# EAGLE library part FH12-8S-0.5SH(55) (library Sala-Eng-Hirose)
Hirose FH12-8S-0.5SH(55) 0.5mm Bottom mount FFC 8 Pin
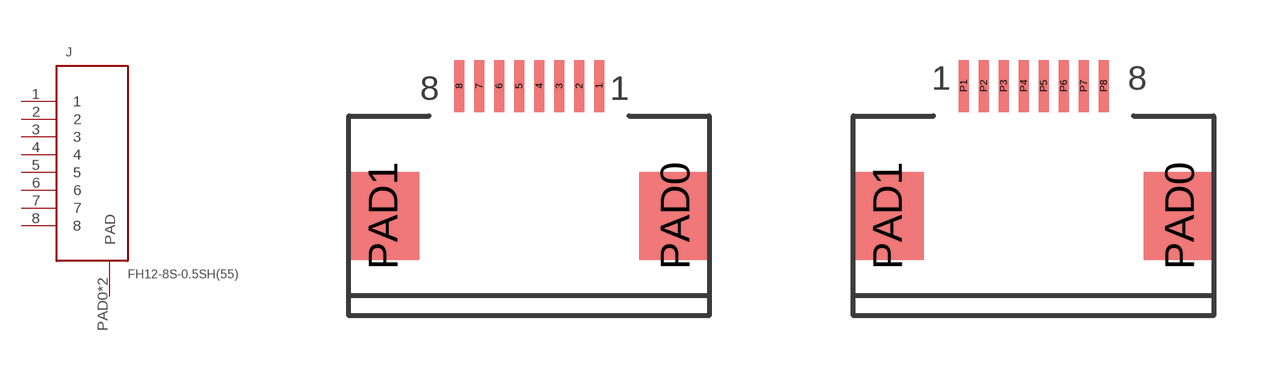
[diagram p10: symbol with the pads of FH12-8S-05.SH(55)-REMOTE; footprints FH12-8S-05.SH(55)-REMOTE, FH12-8S-05.SH(55)-BASE]

Designator prefix J

## FH12-8S-0.5SH(55)REMOTE (MAN-PART_NUM: FH12-8S-0.5SH(55); MANUFACTURER: Hirose)  [FH12-8S-05.SH(55)-REMOTE]
1  1
2  2
3  3
4  4
5  5
6  6
7  7
8  8
PAD0  PAD
PAD1  PAD

## FH12-8S-0.5SH(55)BASE (MAN-PART-NUM: FS12-8S-0.5SH(55); MANUFACTURER: Hirose)  [FH12-8S-05.SH(55)-BASE]
P1  1
P2  2
P3  3
P4  4
P5  5
P6  6
P7  7
P8  8
PAD0  PAD
PAD1  PAD

## Footprint FH12-8S-05.SH(55)-REMOTE (pad centres in mm)
Hirose FH12-8S-0.5SH(55) 0.5mm Bottom mount FFC 8 Pin REMOTE Configuration
smd 0.25 x 1.3: 1 1.75,0; 2 1.25,0; 3 0.75,0; 4 0.25,0; 5 -0.25,0; 6 -0.75,0; 7 -1.25,0; 8 -1.75,0
smd 1.8 x 2.2: PAD0 3.65,-3.25; PAD1 -3.65,-3.25

## Footprint FH12-8S-05.SH(55)-BASE (pad centres in mm)
Hirose FH12-8S-0.5SH(55) 0.5mm Bottom mount FFC 8 Pin BASE Configuration
smd 0.25 x 1.3: P1 -1.75,0; P2 -1.25,0; P3 -0.75,0; P4 -0.25,0; P5 0.25,0; P6 0.75,0; P7 1.25,0; P8 1.75,0
smd 1.8 x 2.2: PAD0 3.65,-3.25; PAD1 -3.65,-3.25